# Altium footprint library CM41532768DZFT.PcbLib: 1 footprints
Each footprint in its own frame and in the unit in brackets; x right, y up, seen from the top. Pads: shape width x height; smd on the part's side, far side on the other; paste and mask are expansions set on the pad; w line width, h text height; cw(c..) or ccw(c..) is an arc to the next point about the centre after c.
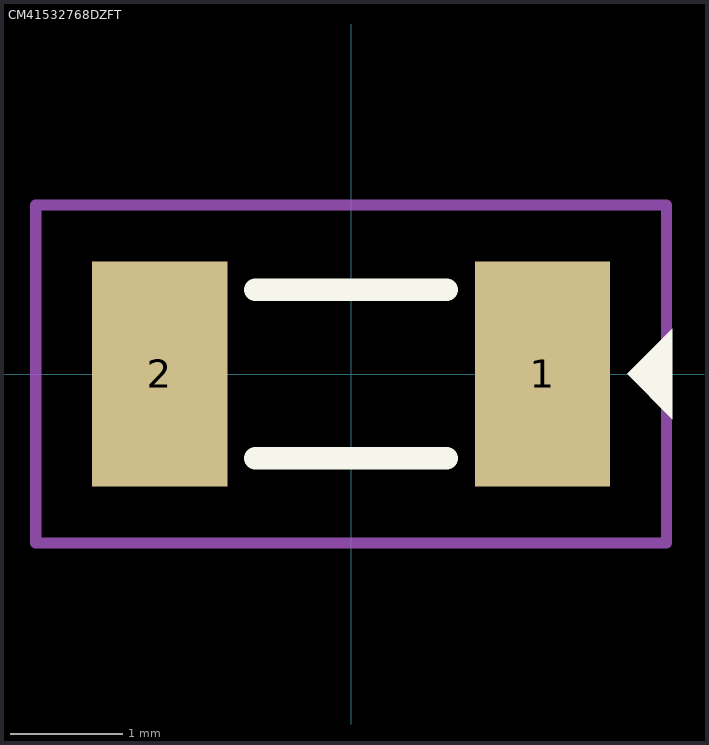
[diagram p0: the footprint, top view; thin cyan lines are the x and y axes]

## CM41532768DZFT [mm]
pads (2):
  rect 1.2x2 smd: 1(1.7,0) 2(-1.7,0)
Top Overlay:
  region: 2.85,0.4 2.85,-0.4 2.45,0
  lines w0.2: -0.85,-0.75 0.85,-0.75 ; -0.85,0.75 0.85,0.75
Top Courtyard:
  lines w0.1: -2.8,-1.5 -2.3,-1.5 2.8,-1.5 2.8,1.5 -2.8,1.5 -2.8,-1.5
3D body "ABS09-32.768KHZ-T--3DModel-STEP-400430.STEP": height 0.88, standoff -0.02, extent -2.05,-0.75 2.05,0.75